# EAGLE library part ADACP2104 (library ME433-2021)
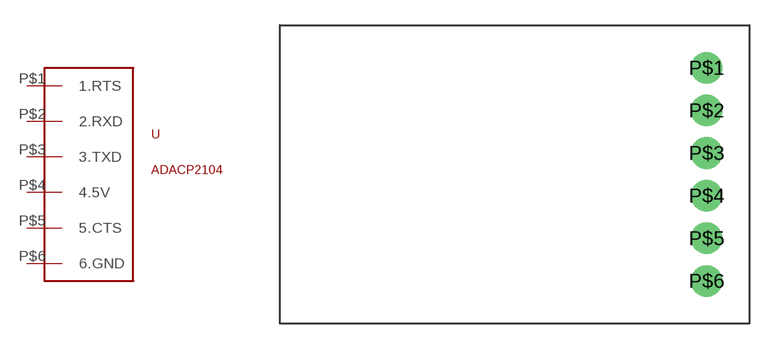
[diagram p9: symbol with the pads of ADACP2104; footprint ADACP2104]

Designator prefix -

## ADACP2104  [ADACP2104]
P$1  1.RTS
P$2  2.RXD
P$3  3.TXD
P$4  4.5V
P$5  5.CTS
P$6  6.GND

## Footprint ADACP2104 (pad centres in mm)
drill 1.016 pad 1.88: P$1 0,6.35; P$2 0,3.81; P$3 0,1.27; P$4 0,-1.27; P$5 0,-3.81; P$6 0,-6.35